# EAGLE library part 1-776267-4 (library te_connectivity)
TE Connectivity AMPSEAL 14 POS RTANG HDR ASSY W/GASKET
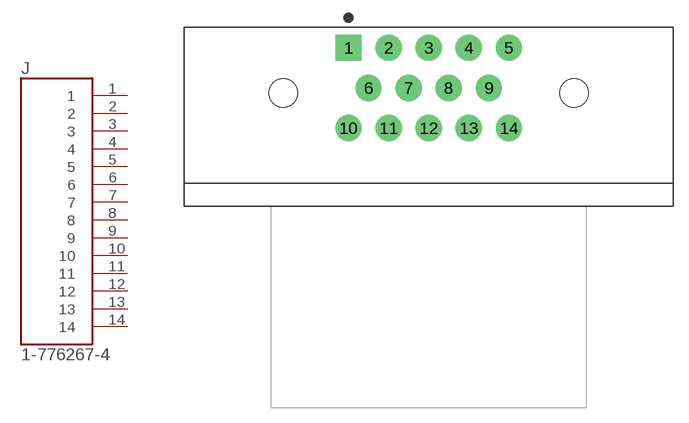
[diagram p1: symbol with the pads of TE_1-776267-4; footprint TE_1-776267-4]

Designator prefix J

## 1-776267-4 (MANUFACTURER: TE Connectivity; METADATA: Manufacturer recommendations; PARTREV: B7)  [TE_1-776267-4]
1  1  pas
2  2  pas
3  3  pas
4  4  pas
5  5  pas
6  6  pas
7  7  pas
8  8  pas
9  9  pas
10  10  pas
11  11  pas
12  12  pas
13  13  pas
14  14  pas

## Footprint TE_1-776267-4 (pad centres in mm)
drill 1.75 square: 1 -8,4.5
drill 1.75: 2 -4,4.5; 3 0,4.5; 4 4,4.5; 5 8,4.5; 6 -6,0.5; 7 -2,0.5; 8 2,0.5; 9 6,0.5; 10 -8,-3.5; 11 -4,-3.5; 12 0,-3.5; 13 4,-3.5; 14 8,-3.5
hole 2.85 at -14.5,0
hole 2.85 at 14.5,0